# Altium schematic symbol library R1206.Schlib: 1 symbol
Pins are listed as number, name and electrical type; pins without a type are passive.

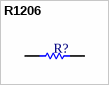
[diagram p0: symbol R1206]

## R1206
designator R?  (value not drawn)
1206 Chip Resistor - Standard
pins: 1, 2